# Altium schematic symbol library Schlib1.SchLib: 3 symbols
Pins are listed as number, name and electrical type; pins without a type are passive.

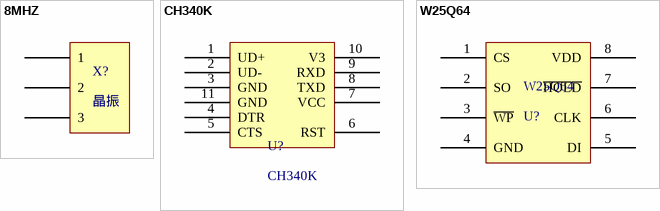
[diagram p0: symbols 8MHZ to W25Q64]

## 8MHZ
designator X?, comment 晶振
pins: 1, 2, 3

## CH340K
designator U?
footprint ESSOP-10 (CH341K)
footprint ESSOP-10 (CH341K)
pins: 1 UD+, 2 UD-, 3 GND, 4 DTR, 5 CTS, 6 RST, 7 VCC, 8 TXD, 9 RXD, 10 V3, 11 GND

## W25Q64
designator W25Q64, comment U?
footprint SOIC-8 (W25Q64)
pins: 1 CS, 2 SO, 3 ~{WP}, 4 GND, 5 DI, 6 CLK, 7 ~{HOLD}, 8 VDD